# EAGLE library part BM70BLES1FC2-0B03AA (library watchplb)
Bluetooth / 802.15.1 Modules Source: Datasheet <http://ww1.microchip.com/downloads/en/DeviceDoc/60001372F.pdf>
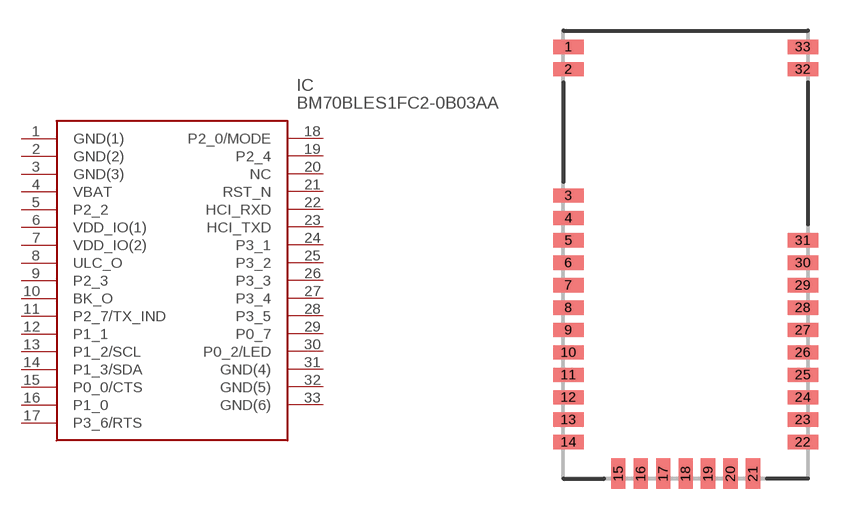
[diagram p0: symbol with the pads of BM78SPPS5NC2_1; footprint BM78SPPS5NC2_1]

Designator prefix IC

## BM70BLES1FC2-0B03AA (DESCRIPTION: Bluetooth / 802.15.1 Modules; HEIGHT: mm; MANUFACTURER_NAME: Microchip; MANUFACTURER_PART_NUMBER: BM70BLES1FC2-0B03AA)  [BM78SPPS5NC2_1]
1  GND(1)
2  GND(2)
3  GND(3)
4  VBAT
5  P2_2
6  VDD_IO(1)
7  VDD_IO(2)
8  ULC_O
9  P2_3
10  BK_O
11  P2_7/TX_IND
12  P1_1
13  P1_2/SCL
14  P1_3/SDA
15  P0_0/CTS
16  P1_0
17  P3_6/RTS
18  P2_0/MODE
19  P2_4
20  NC  nc
21  RST_N
22  HCI_RXD
23  HCI_TXD
24  P3_1
25  P3_2
26  P3_3
27  P3_4
28  P3_5
29  P0_7
30  P0_2/LED
31  GND(4)
32  GND(5)
33  GND(6)

## Footprint BM78SPPS5NC2_1 (pad centres in mm)
BM78SPPS5NC2
smd 1.5 x 0.7: 1 -11.75,21.2; 2 -11.75,20.1; 3 -11.75,13.9; 4 -11.75,12.8; 5 -11.75,11.7; 6 -11.75,10.6; 7 -11.75,9.5; 8 -11.75,8.4; 9 -11.75,7.3; 10 -11.75,6.2; 11 -11.75,5.1; 12 -11.75,4; 13 -11.75,2.9; 14 -11.75,1.8; 22 -0.25,1.8; 23 -0.25,2.9; 24 -0.25,4; 25 -0.25,5.1; 26 -0.25,6.2; 27 -0.25,7.3; 28 -0.25,8.4; 29 -0.25,9.5; 30 -0.25,10.6; 31 -0.25,11.7; 32 -0.25,20.1; 33 -0.25,21.2
smd 0.7 x 1.5: 15 -9.3,0.25; 16 -8.2,0.25; 17 -7.1,0.25; 18 -6,0.25; 19 -4.9,0.25; 20 -3.8,0.25; 21 -2.7,0.25